# EAGLE library part LT8640SEV#PBF (library LT8640SEV_PBF)
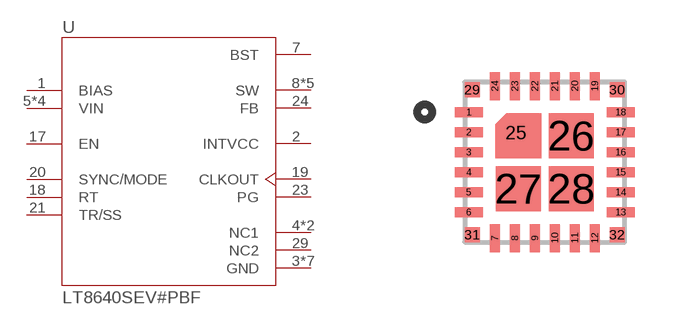
[diagram p0: symbol with the pads of CONV_LT8640SEV#PBF; footprint CONV_LT8640SEV#PBF]

Designator prefix U

## LT8640SEV#PBF (AVAILABILITY: Unavailable; MAXIMUM_PACKAGE_HEIGHT: 1.03mm; MF: Analog Devices; MP: LT8640SEV#PBF; PARTREV: NA; STANDARD: Manufacturer Recommendations)  [CONV_LT8640SEV#PBF]
1  BIAS  in
2  INTVCC  pas
3  GND  pwr
4  NC1  pwr
5  VIN  in
6  VIN  in
7  BST  pas
8  SW  out
9  SW  out
10  SW  out
11  SW  out
12  SW  out
13  VIN  in
14  VIN  in
15  NC1  pwr
16  GND  pwr
17  EN  in
18  RT  pas
19  CLKOUT  out
20  SYNC/MODE  in
21  TR/SS  pas
22  GND  pwr
23  PG  out
24  FB  in
25  GND  pwr
26  GND  pwr
27  GND  pwr
28  GND  pwr
29  NC2  pwr

## Footprint CONV_LT8640SEV#PBF (pad centres in mm)
smd 0.7 x 0.25: 1 -1.9,1.25; 2 -1.9,0.75; 3 -1.9,0.25; 4 -1.9,-0.25; 5 -1.9,-0.75; 6 -1.9,-1.25; 13 1.9,-1.25; 14 1.9,-0.75; 15 1.9,-0.25; 16 1.9,0.25; 17 1.9,0.75; 18 1.9,1.25
smd 0.25 x 0.7: 7 -1.25,-1.9; 8 -0.75,-1.9; 9 -0.25,-1.9; 10 0.25,-1.9; 11 0.75,-1.9; 12 1.25,-1.9; 19 1.25,1.9; 20 0.75,1.9; 21 0.25,1.9; 22 -0.25,1.9; 23 -0.75,1.9; 24 -1.25,1.9
smd 0.5 x 0.5: 25 -0.725,0.725
smd 1.125 x 1.125: 26 0.662,0.662; 27 -0.662,-0.662; 28 0.662,-0.662
smd 0.375 x 0.375: 29 -1.812,1.812; 30 1.812,1.812; 31 -1.812,-1.812; 32 1.812,-1.812